# EAGLE library part LED_RGB_OCTCXBTHC1E (library akita)
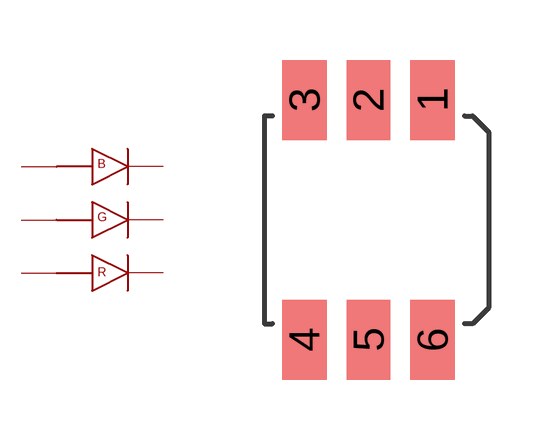
[diagram p67: symbol with the pads of LED_6P_5X5; footprint LED_6P_5X5]

Designator prefix -

## LED_RGB_OCTCXBTHC1E  [LED_6P_5X5]
1  GK
2  RK
3  BK
4  BA
5  RA
6  GA

## Footprint LED_6P_5X5 (pad centres in mm)
smd 1.1 x 2: 1 1.6,3; 2 0,3; 3 -1.6,3; 4 -1.6,-3; 5 0,-3; 6 1.6,-3